# EAGLE library part M10578-A3 (library balto)
Antenova GPS Modules MediaTek MT3333 Flash Chip
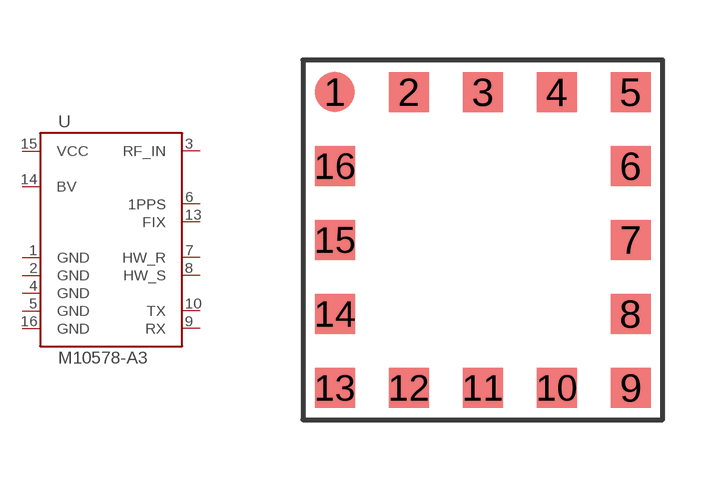
[diagram p49: symbol with the pads of M10578-A3; footprint M10578-A3]

Designator prefix U

## M10578-A3  [M10578-A3]
1  GND
2  GND
3  RF_IN
4  GND
5  GND
6  1PPS
7  HW_R
8  HW_S
9  RX
10  TX
13  FIX
14  BV
15  VCC
16  GND

## Footprint M10578-A3 (pad centres in mm)
Antenova GPS Modules MediaTek MT3333 Flash Chip
smd 1 x 1: 1 -3.7,3.7; 2 -1.85,3.7; 3 0,3.7; 4 1.85,3.7; 5 3.7,3.7; 6 3.7,1.85; 7 3.7,0; 8 3.7,-1.85; 9 3.7,-3.7; 10 1.85,-3.7; 11 0,-3.7; 12 -1.85,-3.7; 13 -3.7,-3.7; 14 -3.7,-1.85; 15 -3.7,0; 16 -3.7,1.85